# Altium schematic symbol library LM393_DGK_8.SchLib: 3 symbols
Pins are listed as number, name and electrical type; pins without a type are passive.

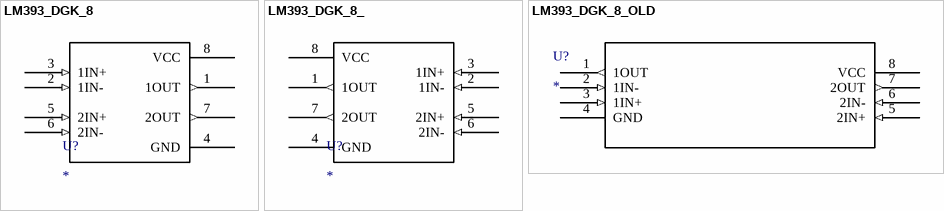
[diagram p0: symbols LM393_DGK_8 to LM393_DGK_8_OLD]

## LM393_DGK_8
designator U?
Imported; Manufacturer: Texas Instruments; GENERIC_PART_NUMBER: LM393; INDUSTRY_STD_PKG_TYPE: MSOP; FAMILY_NAME: COMPARATOR; PIN_COUNT: 8; PACKAGE_DESIGNATOR: DGK; Datasheet URL: http://www.ti.com/lit/gpn/LM393; RefDes: RefDes; Type: DEV; Value: Value
footprint DGK8
pins: 1 1OUT (out), 2 1IN- (in), 3 1IN+ (in), 4 GND (power), 5 2IN+ (in), 6 2IN- (in), 7 2OUT (out), 8 VCC (power)

## LM393_DGK_8_
designator U?
Imported; Manufacturer: Texas Instruments; GENERIC_PART_NUMBER: LM393; INDUSTRY_STD_PKG_TYPE: MSOP; FAMILY_NAME: COMPARATOR; PIN_COUNT: 8; PACKAGE_DESIGNATOR: DGK; Datasheet URL: http://www.ti.com/lit/gpn/LM393; RefDes: RefDes; Type: DEV; Value: Value
footprint DGK8
pins: 1 1OUT (out), 2 1IN- (in), 3 1IN+ (in), 4 GND (power), 5 2IN+ (in), 6 2IN- (in), 7 2OUT (out), 8 VCC (power)

## LM393_DGK_8_OLD
designator U?
Imported; Manufacturer: Texas Instruments; GENERIC_PART_NUMBER: LM393; INDUSTRY_STD_PKG_TYPE: MSOP; FAMILY_NAME: COMPARATOR; PIN_COUNT: 8; PACKAGE_DESIGNATOR: DGK; Datasheet URL: http://www.ti.com/lit/gpn/LM393; RefDes: RefDes; Type: DEV; Value: Value
footprint DGK8
pins: 1 1OUT (out), 2 1IN- (in), 3 1IN+ (in), 4 GND (power), 5 2IN+ (in), 6 2IN- (in), 7 2OUT (out), 8 VCC (power)